# Altium footprint library IC_Marvell_88E1111-B2-BAB1C000_eec_0.PcbLib: 1 footprints
Each footprint in its own frame and in the unit in brackets; x right, y up, seen from the top. Pads: shape width x height; smd on the part's side, far side on the other; paste and mask are expansions set on the pad; w line width, h text height; cw(c..) or ccw(c..) is an arc to the next point about the centre after c.
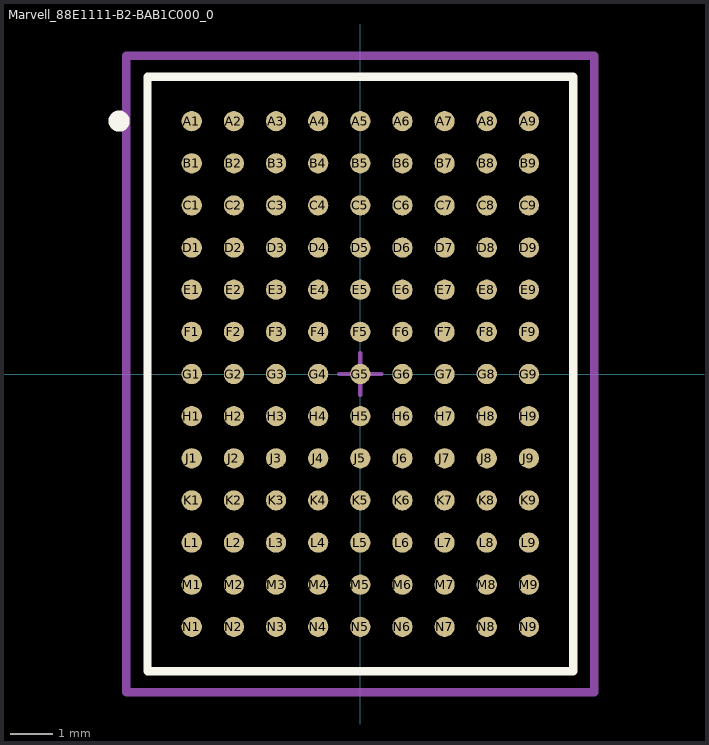
[diagram p0: the footprint, top view; thin cyan lines are the x and y axes]

## Marvell_88E1111-B2-BAB1C000_0 [mm]
pads (117):
  round 0.48 smd paste+0 mask+0: A1(-4,6) A2(-3,6) A3(-2,6) A4(-1,6) A5(0,6) A6(1,6) A7(2,6) A8(3,6) A9(4,6) B1(-4,5) B2(-3,5) B3(-2,5) B4(-1,5) B5(0,5) B6(1,5) B7(2,5) B8(3,5) B9(4,5) C1(-4,4) C2(-3,4) C3(-2,4) C4(-1,4) C5(0,4) C6(1,4) C7(2,4) C8(3,4) C9(4,4) D1(-4,3) D2(-3,3) D3(-2,3) D4(-1,3) D5(0,3) D6(1,3) D7(2,3) D8(3,3) D9(4,3) E1(-4,2) E2(-3,2) E3(-2,2) E4(-1,2) E5(0,2) E6(1,2) E7(2,2) E8(3,2) E9(4,2) F1(-4,1) F2(-3,1) F3(-2,1) F4(-1,1) F5(0,1) F6(1,1) F7(2,1) F8(3,1) F9(4,1) G1(-4,0) G2(-3,0) G3(-2,0) G4(-1,0) G5(0,0) G6(1,0) G7(2,0) G8(3,0) G9(4,0) H1(-4,-1) H2(-3,-1) H3(-2,-1) H4(-1,-1) H5(0,-1) H6(1,-1) H7(2,-1) H8(3,-1) H9(4,-1) J1(-4,-2) J2(-3,-2) J3(-2,-2) J4(-1,-2) J5(0,-2) J6(1,-2) J7(2,-2) J8(3,-2) J9(4,-2) K1(-4,-3) K2(-3,-3) K3(-2,-3) K4(-1,-3) K5(0,-3) K6(1,-3) K7(2,-3) K8(3,-3) K9(4,-3) L1(-4,-4) L2(-3,-4) L3(-2,-4) L4(-1,-4) L5(0,-4) L6(1,-4) L7(2,-4) L8(3,-4) L9(4,-4) M1(-4,-5) M2(-3,-5) M3(-2,-5) M4(-1,-5) M5(0,-5) M6(1,-5) M7(2,-5) M8(3,-5) M9(4,-5) N1(-4,-6) N2(-3,-6) N3(-2,-6) N4(-1,-6) N5(0,-6) N6(1,-6) N7(2,-6) N8(3,-6) N9(4,-6)
Top Overlay:
  circle w0.25: c-5.725,6 r0.125
  lines w0.2: -5.05,-7.05 5.05,-7.05 5.05,7.05 -5.05,7.05 -5.05,-7.05
Mechanical 10:
  lines w0.2: -5.55,-7.55 5.55,-7.55 5.55,7.55 -5.55,7.55 -5.55,-7.55
  text ".Designator" at 0,0 h1
Mechanical 12:
  lines w0.15: -5.05,-7.05 5.05,-7.05 5.05,7.05 -5.05,7.05 -5.05,-7.05
Mechanical 15:
  lines w0.1: -0.5,0 0.5,0 ; 0,-0.5 0,0.5
  lines w0.2: -5.55,-7.55 5.55,-7.55 5.55,7.55 -5.55,7.55 -5.55,-7.55
3D body "IC_Marvell_88E1111-B2-BAB1C000_eec.STEP": height 0.25, standoff 0, extent -5.55,-7.55 5.55,7.55